# Altium footprint library Discrete_Filters_Beads_SMD.PcbLib: 1 footprints
Each footprint in its own frame and in the unit in brackets; x right, y up, seen from the top. Pads: shape width x height; smd on the part's side, far side on the other; paste and mask are expansions set on the pad; w line width, h text height; cw(c..) or ccw(c..) is an arc to the next point about the centre after c.
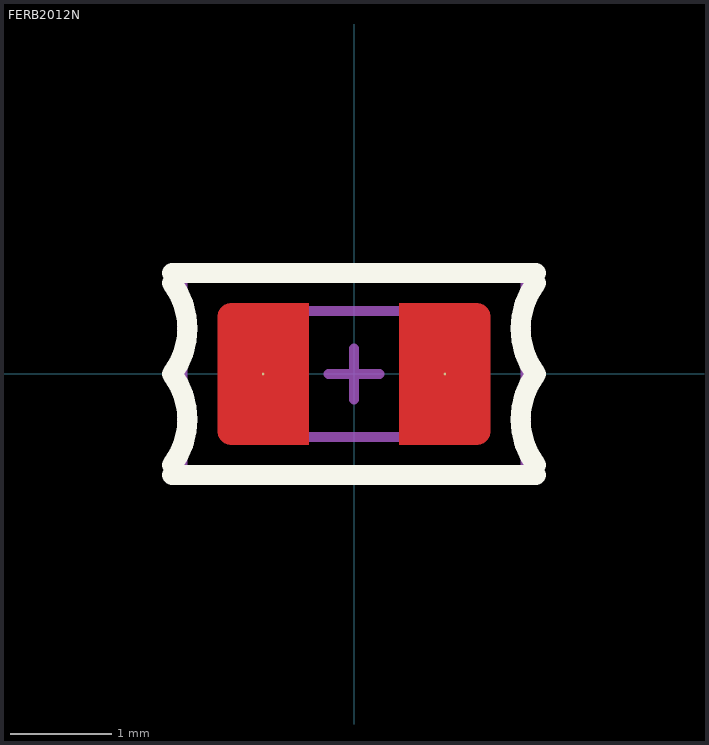
[diagram p0: the footprint, top view; thin cyan lines are the x and y axes]

## FERB2012N [mil]
height 41.34
pads (2):
  round 1 smd: 1(-35.43,0) 2(35.43,0)
Top Layer:
  region: -47.83,27.56 -17.72,27.56 -17.72,-27.56 -47.83,-27.56 -48.36,-27.56 -49.38,-27.35 -50.35,-26.95 -51.22,-26.37 -51.96,-25.63 -52.54,-24.76 -52.95,-23.79 -53.15,-22.77 -53.15,-22.24 -53.15,22.24 -53.15,22.77 -52.95,23.79 -52.54,24.76 -51.96,25.63 -51.22,26.37 -50.35,26.95 -49.38,27.35 -48.36,27.56
  region: 47.83,-27.56 17.72,-27.56 17.72,27.56 47.83,27.56 48.36,27.56 49.38,27.35 50.35,26.95 51.22,26.37 51.96,25.63 52.54,24.76 52.95,23.79 53.15,22.77 53.15,22.24 53.15,-22.24 53.15,-22.77 52.95,-23.79 52.54,-24.76 51.96,-25.63 51.22,-26.37 50.35,-26.95 49.38,-27.35 48.36,-27.56
Top Overlay:
  lines w7.87: -70.87,-39.37 70.87,-39.37 ; -70.87,-35.43 ccw(c-94.49,-17.72) -70.87,0 ccw(c-94.49,17.72) -70.87,35.43 ; -70.87,39.37 70.87,39.37 ; 70.87,-35.43 cw(c94.49,-17.72) 70.87,0 cw(c94.49,17.72) 70.87,35.43
Top Package:
  lines w3.94: -24.61,-24.61 -24.61,24.61 ; 23.62,-24.61 23.62,24.61 ; -39.37,-24.61 -39.37,24.61 39.37,24.61 39.37,-24.61 -39.37,-24.61
Top Comment:
  text ".Comment" at -83.79,-18.64 h59.06
Top Designator:
  text ".Designator" at -101.6,-13.17 h59.06
Top Border:
  lines w3.94: -9.84,0 9.84,0 ; 0,-9.84 0,9.84 ; -66.93,-39.37 66.93,-39.37 66.93,39.37 -66.93,39.37 -66.93,-39.37
3D body "User Library-User Library-Chip InductorINDC2012X130N.sldprt": height 51.18, standoff 0, extent -39.37,-23.62 39.37,23.62